# Altium schematic symbol library a_Valider_HD.SchLib: 3 symbols
Pins are listed as number, name and electrical type; pins without a type are passive.

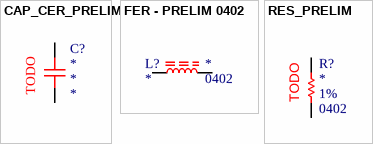
[diagram p0: symbols CAP_CER_PRELIM to RES_PRELIM]

## CAP_CER_PRELIM
designator C?, comment PRELIM  (value not drawn)
CAP - CER PRELIM; Manufacturer #1: Würth Elektronik; Part Number #1: 885342211009; Tolerance: 10%; GRAMS Lib Spec: 2.8; Magnetic Material: Unknown; Polarized: No; Current Rating: *; Power Max: *; HelpURL: http://www.vishay.com/docs/45228/hvseries.pdf; CreatedBy/Date: Hubert Dube - 03/02/2021; Temperature: -55°C ~ 125°C; Manufacturer #2: *; Note: *; Assembly Type: SMD; Part Number #2: *; Cryo: UNKNOWN; Supplier 1: Digi-Key; Supplier Part Number 1: 732-12109-1-ND; Package: *; Voltage Rating: *; Value: *
footprint CAP_CER_1812
pins: 1, 2
text: TODO

## FER - PRELIM 0402
designator L?, comment Package: 0402  (hidden comment: FER - PRELIM  0402)
FER - 0402 PRELIM; Voltage: *; CreatedBy: Jonathan Bouchard; Power: *; Precision: *; Current: *; Value: *
footprint FER_0402
pins: 1, 2

## RES_PRELIM
designator R?, comment Tolerance: 1%  Package: 0402  (hidden comment: PRELIM)
RES -PRELIM; Manufacturer #1: Yageo; Part Number #1: RC0402FR-0775RL; GRAMS Lib Spec: 2.8c; Power Max: 1/16W; Magnetic Material: Unknown; Polarized: No; Voltage Rating: 50V; Assembly Type: SMD; CreatedBy/Date: Hubert Dubé - 3/02/2020; Current Rating: *; HelpURL: https://www.yageo.com/upload/media/product/productsearch/datasheet/rchip/PYu-RC_Group_51_RoHS_L_11.pdf; Manufacturer #2: *; Note: *; Part Number #2: *; Temperature: -55°C ~ 155°C; Value: *
footprint RES_0402 (Resistor - 0402)
pins: 1, 2
text: TODO